# Altium footprint library PDU.PcbLib: 22 footprints (part 1 of 2)
Each footprint in its own frame and in the unit in brackets; x right, y up, seen from the top. Pads: shape width x height; smd on the part's side, far side on the other; paste and mask are expansions set on the pad; w line width, h text height; cw(c..) or ccw(c..) is an arc to the next point about the centre after c.
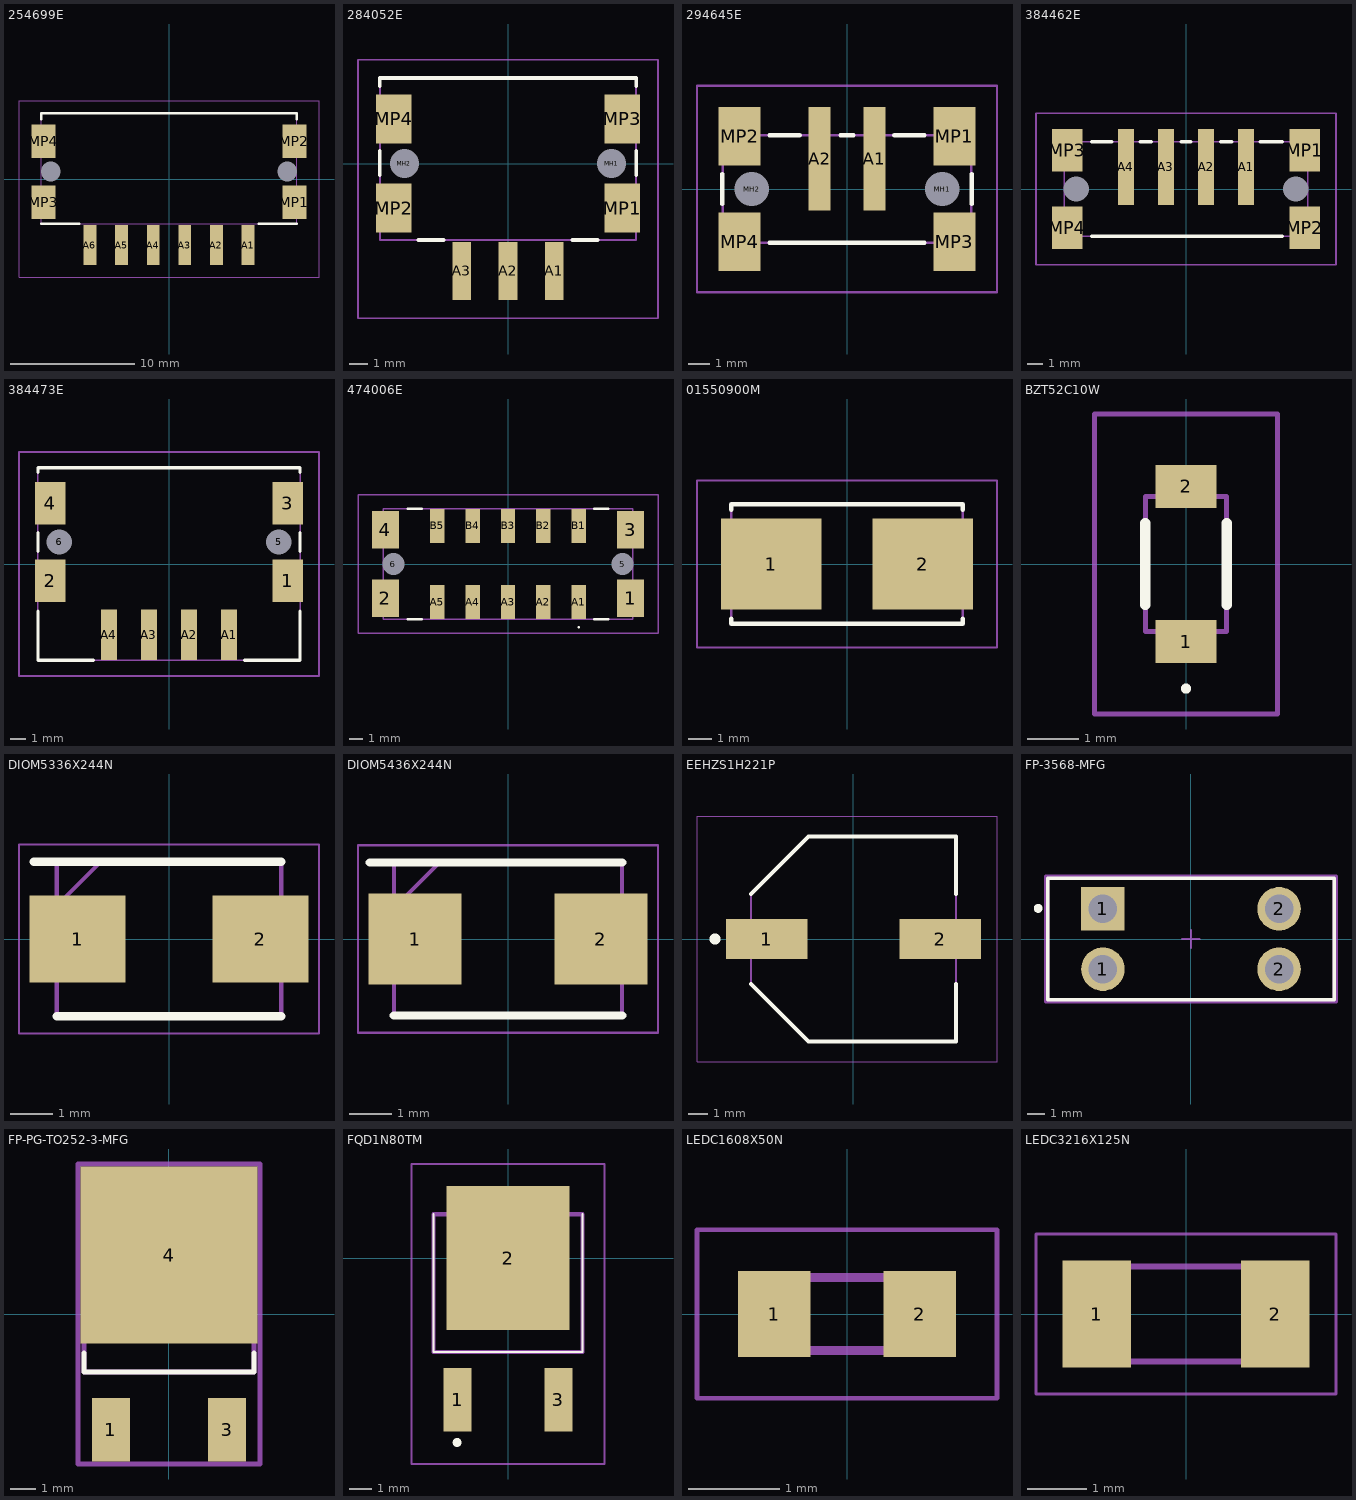
[diagram p0: the footprints below, top view; thin cyan lines are the x and y axes]

## 254699E [mm]
pads (12):
  rect 1.02x3.2 smd: A1(6.35,-5.3) A2(3.81,-5.3) A3(1.27,-5.3) A4(-1.27,-5.3) A5(-3.81,-5.3) A6(-6.35,-5.3)
  round 0.8 hole 1.6 unplated: MH1(9.5,0.6) MH2(-9.5,0.6)
  rect 1.95x2.7 smd: MP1(10.075,-1.85) MP2(10.075,3.05) MP3(-10.075,-1.85) MP4(-10.075,3.05)
Top Overlay:
  lines w0.2: -10.25,-3.6 -7.2,-3.6 ; -10.25,4.8 -10.25,5.3 10.25,5.3 10.25,4.8 ; 7.2,-3.6 10.25,-3.6
Top 3D Body:
  lines w0.1: -10.25,-3.6 10.25,-3.6 10.25,5.3 -10.25,5.3 -10.25,-3.6
Top Courtyard:
  lines w0.1: -12.05,-7.9 12.05,-7.9 12.05,6.3 -12.05,6.3 -12.05,-7.9
3D body "c-254699-e-1-3d.stp": height 5.1, standoff -0.7, extent -10.85,-6.866 10.85,5.334

## 284052E [mm]
pads (9):
  rect 1.02x3.2 smd: A1(2.54,-5.9) A2(0,-5.9) A3(-2.54,-5.9)
  round 0.8 hole 1.6 unplated: MH1(5.69,0) MH2(-5.69,0)
  rect 1.95x2.7 smd: MP1(6.265,-2.45) MP2(-6.265,-2.45) MP3(6.265,2.45) MP4(-6.265,2.45)
Top Overlay:
  lines w0.2: -7.04,-0.64 -7.04,0.695 ; -7.04,4.255 -7.04,4.7 7.04,4.7 7.04,4.255 ; -4.928,-4.2 -3.52,-4.2 ; 3.52,-4.2 4.928,-4.2 ; 7.04,-0.64 7.04,0.695
Top 3D Body:
  lines w0.1: -7.04,-4.2 -7.04,4.7 7.04,4.7 7.04,-4.2 -7.04,-4.2
Top Courtyard:
  lines w0.1: -8.24,-8.5 -8.24,5.7 8.24,5.7 8.24,-8.5 -8.24,-8.5
3D body "284052-E.stp": height 4.93, standoff -0.87, extent -7.04,-7.5 7.04,4.7

## 294645E [mm]
pads (8):
  rect 1.02x4.8 smd: A1(1.27,1.4) A2(-1.27,1.4)
  round 0.8 hole 1.6 unplated: MH1(4.42,0) MH2(-4.42,0)
  rect 1.95x2.7 smd: MP1(4.995,2.45) MP2(-4.995,2.45) MP3(4.995,-2.45) MP4(-4.995,-2.45)
Top Overlay:
  lines w0.2: -5.8,-0.7 -5.8,0.7 ; -3.6,-2.5 3.6,-2.5 ; -3.6,2.5 -2.2,2.5 ; -0.3,2.5 0.3,2.5 ; 2.2,2.5 3.6,2.5 ; 5.8,-0.7 5.8,0.7
Top 3D Body:
  lines w0.1: -5.77,-2.5 -5.77,2.5 5.77,2.5 5.77,-2.5 -5.77,-2.5
Top Courtyard:
  lines w0.1: -6.97,-4.8 -6.97,4.8 6.97,4.8 6.97,-4.8 -6.97,-4.8
3D body "294645-E.stp": height 10, standoff -0.15, extent -5.77,-3.6 5.77,3.6

## 384462E [mm]
pads (10):
  rect 1.02x4.8 smd: A1(3.81,1.4) A2(1.27,1.4) A3(-1.27,1.4) A4(-3.81,1.4)
  round 0.8 hole 1.6 unplated: MH1(6.96,0) MH2(-6.96,0)
  rect 1.95x2.7 smd: MP1(7.535,2.45) MP2(7.535,-2.45) MP3(-7.535,2.45) MP4(-7.535,-2.45)
Top Overlay:
  lines w0.2: -6,-3 6.1,-3 ; -6,3 -4.7,3 ; -2.9,3 -2.2,3 ; -0.3,3 0.3,3 ; 2.2,3 2.9,3 ; 4.7,3 6.1,3
Top 3D Body:
  lines w0.1: -7.71,-3 7.71,-3 7.71,3 -7.71,3 -7.71,-3
Top Courtyard:
  lines w0.1: -9.51,-4.8 9.51,-4.8 9.51,4.8 -9.51,4.8 -9.51,-4.8
3D body "384462-E.stp": height 10, standoff -1.7, extent -8.315,-3.605 8.315,3.698

## 384473E [mm]
pads (10):
  rect 1.95x2.7 smd: 1(7.535,-1.05) 2(-7.535,-1.05) 3(7.535,3.85) 4(-7.535,3.85)
  round 0.8 hole 1.6 unplated: 5(6.96,1.4) 6(-6.96,1.4)
  rect 1.02x3.2 smd: A1(3.81,-4.5) A2(1.27,-4.5) A3(-1.27,-4.5) A4(-3.81,-4.5)
Top Overlay:
  lines w0.2: -8.31,-3 -8.31,-6.1 -4.8,-6.1 ; -8.31,0.8 -8.31,2 ; -8.31,5.8 -8.31,6.1 8.31,6.1 8.31,5.8 ; 4.8,-6.1 8.31,-6.1 8.31,-3 ; 8.31,0.8 8.31,2
Top 3D Body:
  lines w0.1: -8.31,-6.1 8.31,-6.1 8.31,6.1 -8.31,6.1 -8.31,-6.1
Top Courtyard:
  lines w0.1: -9.51,-7.1 9.51,-7.1 9.51,7.1 -9.51,7.1 -9.51,-7.1
3D body "384473-E.stp": height 5.14, standoff -0.66, extent -8.31,-6.1 8.31,6.1

## 474006E [mm]
pads (16):
  rect 1.95x2.7 smd: 1(8.805,-2.45) 2(-8.805,-2.45) 3(8.805,2.45) 4(-8.805,2.45)
  round 0.8 hole 1.6 unplated: 5(8.23,0) 6(-8.23,0)
  rect 1.02x2.47 smd: A1(5.08,-2.735) A2(2.54,-2.735) A3(0,-2.735) A4(-2.54,-2.735) A5(-5.08,-2.735) B1(5.08,2.735) B2(2.54,2.735) B3(0,2.735) B4(-2.54,2.735) B5(-5.08,2.735)
Top Overlay:
  lines w0.1: 5.08,-4.6 cw(c5.08,-4.55) 5.08,-4.5 cw(c5.08,-4.55) 5.08,-4.6
  lines w0.2: -7.2,-3.97 -6.2,-3.97 ; -7.2,3.97 -6.2,3.97 ; 6.2,-3.97 7.2,-3.97 ; 6.2,3.97 7.2,3.97
Top 3D Body:
  lines w0.1: -8.98,-3.97 8.98,-3.97 8.98,3.97 -8.98,3.97 -8.98,-3.97
Top Courtyard:
  lines w0.1: -10.78,-4.97 10.78,-4.97 10.78,4.97 -10.78,4.97 -10.78,-4.97
3D body "474006-E.stp": height 10.15, standoff 0, extent -9.58,-3.97 9.58,3.97

## 01550900M [mm]
pads (2):
  rect 4.24x3.81 smd: 1(-3.19,0) 2(3.19,0)
Top Overlay:
  lines w0.2: -4.865,-2.3 -4.865,-2.515 4.865,-2.515 4.865,-2.3 ; -4.865,2.285 -4.865,2.5 ; -4.865,2.515 4.865,2.515 ; 4.865,2.285 4.865,2.5
Top 3D Body:
  lines w0.1: -4.865,-2.515 4.865,-2.515 4.865,2.515 -4.865,2.515 -4.865,-2.515
Top Courtyard:
  lines w0.1: -6.31,-3.515 6.31,-3.515 6.31,3.515 -6.31,3.515 -6.31,-3.515
3D body "01550900M.stp": height 3.8, standoff 0, extent -4.95,-2.513 4.956,2.516

## BZT52C10W [mm]
pads (2):
  rect 1.2x0.85 smd: 1(0,-1.525) 2(0,1.525)
Top Overlay:
  lines w0.1: 0,-2.5 ccw(c0,-2.45) 0,-2.4 ccw(c0,-2.45) 0,-2.5
  lines w0.2: -0.8,-0.8 -0.8,0.8 ; 0.8,-0.8 0.8,0.8
Top 3D Body:
  lines w0.1: -0.8,-1.325 -0.8,1.325 0.8,1.325 0.8,-1.325 -0.8,-1.325
Top Courtyard:
  lines w0.1: -1.8,-2.95 -1.8,2.95 1.8,2.95 1.8,-2.95 -1.8,-2.95
3D body "BZT52C10W.stp": height 1.25, standoff 0, extent -0.8,-1.865 0.8,1.865

## DIOM5336X244N [mm]
pads (2):
  rect 2.25x2.05 smd: 1(-2.15,0) 2(2.15,0)
Top Overlay:
  lines w0.2: -3.175,1.81 2.635,1.81 ; -2.635,-1.81 2.635,-1.81
Top 3D Body:
  lines w0.1: -2.635,0.785 -1.61,1.81 ; -2.635,-1.81 -2.635,1.81 2.635,1.81 2.635,-1.81 -2.635,-1.81
Top Courtyard:
  lines w0.05: -3.525,-2.22 -3.525,2.22 3.525,2.22 3.525,-2.22 -3.525,-2.22
3D body "SS510B.stp": height 2.44, standoff 0, extent -2.635,-1.81 2.635,1.81

## DIOM5436X244N [mm]
pads (2):
  rect 2.2x2.15 smd: 1(-2.2,0) 2(2.2,0)
Top Overlay:
  lines w0.2: -3.275,1.81 2.7,1.81 ; -2.7,-1.81 2.7,-1.81
Top 3D Body:
  lines w0.1: -2.7,0.735 -1.625,1.81 ; -2.7,-1.81 -2.7,1.81 2.7,1.81 2.7,-1.81 -2.7,-1.81
Top Courtyard:
  lines w0.05: -3.55,-2.22 -3.55,2.22 3.55,2.22 3.55,-2.22 -3.55,-2.22
3D body "SMBJ16A-E3_52.stp": height 2.44, standoff 0, extent -2.7,-1.81 2.7,1.81

## EEHZS1H221P [mm]
pads (2):
  rect 4.1x2 smd: 1(-4.35,0) 2(4.35,0)
Top Overlay:
  lines w0.2: -5.15,-2.25 -2.25,-5.15 5.15,-5.15 5.15,-2.25 ; -5.15,2.25 -2.25,5.15 4.5,5.15 5.15,5.15 5.15,2.25
  lines w0.5: -6.975,0 cw(c-6.95,0) -6.925,0 cw(c-6.95,0) -6.975,0
Top 3D Body:
  lines w0.1: -5.15,2.25 -2.25,5.15 ; -5.15,2.25 -5.15,-2.25 -2.25,-5.15 5.15,-5.15 5.15,5.15 -2.25,5.15 ; -5.15,2.25 -2.25,5.15
Top Courtyard:
  lines w0.05: -7.85,-6.15 7.2,-6.15 7.2,6.15 -7.85,6.15 -7.85,-6.15
3D body "EEH-ZU1V471P.stp": height 16.5, standoff 0, extent -5.83,-5.15 5.17,5.15

## FP-3568-MFG [mm]
pads (4):
  round 2.45 hole 1.6 paste-2539.97 mask+0: 1(-4.96,-1.7) 2(4.96,-1.7) 2(4.96,1.7)
  rect 2.45x2.45 hole 1.6 paste-2539.97 mask+0: 1(-4.96,1.7)
Top Overlay:
  circle w0.25: c-8.6,1.725 r0.125
  lines w0.2: -8.065,-3.43 -8.065,3.43 8.065,3.43 8.065,-3.43 -8.065,-3.43
Top Assembly:
  lines w0.2: -8.165,-3.53 -8.165,3.53 8.165,3.53 8.165,-3.53 -8.165,-3.53
  text ".Designator" at 0,0.187 h1
Top 3D Body:
  lines w0.2: -8.065,-3.43 8.065,-3.43 8.065,3.43 -8.065,3.43 -8.065,-3.43
Top Courtyard:
  lines w0.2: -8.165,-3.53 -8.165,3.53 8.165,3.53 8.165,-3.53 -8.165,-3.53
Top Component Center:
  lines w0.1: -0.5,0 0.5,0 ; 0,-0.5 0,0.5
3D body "Fuse_Keystone_3568_eec.STEP": height 0.25, standoff 0, extent -8.165,-3.53 8.165,3.53

## FP-PG-TO252-3-MFG [mm]
pads (3):
  rect 1.5x2.5 smd paste+0 mask+0: 1(-2.3,-4.575) 3(2.3,-4.575)
  rect 7x7 smd paste+0 mask+0: 4(0,2.325)
Top Overlay:
  lines w0.2: -3.365,-1.55 -3.365,-2.285 3.365,-2.285 3.365,-1.55
Top Assembly:
  lines w0.2: -3.6,-5.925 3.6,-5.925 3.6,5.925 -3.6,5.925 -3.6,-5.925
  text ".Designator" at 0,-0.001 h1
Top 3D Body:
  lines w0.2: -3.365,-2.285 3.365,-2.285 3.365,3.935 -3.365,3.935 -3.365,-2.285
Top Courtyard:
  lines w0.2: -3.6,-5.925 3.6,-5.925 3.6,5.925 -3.6,5.925 -3.6,-5.925
Top Component Center:
  lines w0.1: -0.5,0 0.5,0 ; 0,-0.5 0,0.5
3D body "Trans_Infineon_IRFR15N20DTRPBF_eec.STEP": height 0.25, standoff 0, extent -3.6,-5.925 3.6,5.925

## FQD1N80TM [mm]
pads (3):
  rect 1.25x2.85 smd: 1(-2.28,-6.4) 3(2.28,-6.4)
  rect 5.55x6.5 smd: 2(0,0)
Top Overlay:
  lines w0.1: -3.365,1.98 -3.365,-4.24 3.365,-4.24 3.365,1.98
  lines w0.2: -2.4,-8.327 ccw(c-2.3,-8.327) -2.2,-8.327 ccw(c-2.3,-8.327) -2.4,-8.327
Top 3D Body:
  lines w0.2: -3.365,-4.24 3.365,-4.24 3.365,1.98 -3.365,1.98 -3.365,-4.24
Top Courtyard:
  lines w0.1: -4.365,-9.3 4.365,-9.3 4.365,4.25 -4.365,4.25 -4.365,-9.3
3D body "FDD6685.stp": height 2.3, standoff 0, extent -3.25,-7.705 3.25,2.657

## LEDC1608X50N [mm]
pads (2):
  rect 0.8x0.95 smd: 1(-0.8,0) 2(0.8,0)
Top 3D Body:
  lines w0.1: -0.8,0.133 -0.533,0.4 ; -0.8,-0.4 0.8,-0.4 0.8,0.4 -0.8,0.4 -0.8,-0.4
Top Courtyard:
  lines w0.05: -1.65,-0.925 1.65,-0.925 1.65,0.925 -1.65,0.925 -1.65,-0.925
3D body "19-217_GHC-YR1S2_3T.stp": height 0.42, standoff 0, extent -0.84,-0.4 0.8,0.4

## LEDC3216X125N [mm]
pads (2):
  rect 1.15x1.8 smd: 1(-1.5,0) 2(1.5,0)
Top 3D Body:
  lines w0.1: -1.6,0.267 -1.067,0.8 ; -1.6,-0.8 -1.6,0.8 1.6,0.8 1.6,-0.8 -1.6,-0.8
Top Courtyard:
  lines w0.05: -2.525,-1.35 -2.525,1.35 2.525,1.35 2.525,-1.35 -2.525,-1.35
3D body "APTR3216-VFX.stp": height 1.05, standoff 0, extent -1.63,-0.8 1.57,0.8